# EAGLE library part DIGILENT_PMOD_NAV (library m_module)
Digilent Pmod NAV: 9-axis IMU Plus Barometer Description The Digilent Pmod NAV uses the LSM9DS1 <http://www.st.com/web/en/resource/technical/document/datasheet/DM00103319.pdf> 3-axis accelerometer, 3-axis gyroscope, 3-axis magnetometer, plus the LPS25HB <http://www.st.com/web/en/resource/technical/document/datasheet/DM00141379.pdf> digital barometer to provide users with 10-DOF functionality. The Pmod NAV provides a variety of orientation related data, allowing users to easily determine the exact position the module is in and where it is headed. With 16-bit full scale registers for acceleration, rotation, and orientation, and 24 bits of resolution for pressure data, users can easily figure out if their moving robot is falling over, how high in the air their hot air balloon is located, or which direction they are facing. Features: ±2/±4/±8/±16 g linear acceleration full scale ±245/±500/±2000 dps angular rate full scale ±4/±8/±12/±16 gauss magnetic full scale 260-1260 hPa piezoresistive pressure sensor Embedded temperature sensors for compensation 12-pin Pmod connector with SPI interface Follows Digilent Interface Specification Type 2A Library and example code available in resource center Product page: https://store.digilentinc.com/pmod-nav-9-axis-imu-plus-barometer/ Octopart Search <https://octopart.com/search?q=digilent 410-326>
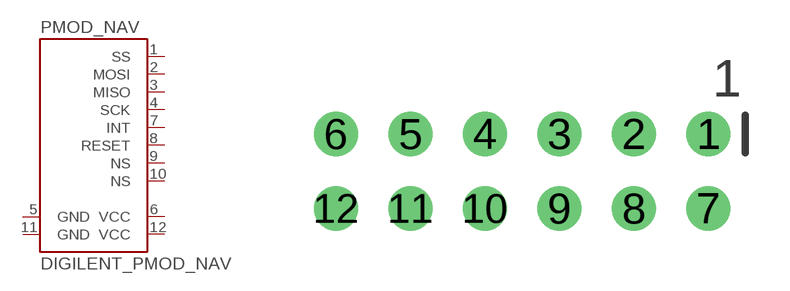
[diagram p9: symbol with the pads of PMOD_2A_ESPI; footprint PMOD_2A_ESPI]

Designator prefix PMOD_NAV

## DIGILENT_PMOD_NAV (MANUF: Digilent; PARTNUM: digilent 410-326; VALUE: Pmod NAV)  [PMOD_2A_ESPI]
1  SS  pas
2  MOSI  pas
3  MISO  pas
4  SCK  pas
5  GND  pas
6  VCC  pas
7  INT  pas
8  RESET  pas
9  NS  pas
10  NS  pas
11  GND  pas
12  VCC  pas

## Footprint PMOD_2A_ESPI (pad centres in mm)
Pmod Interface Type 2A: Expanded SPI, Vertical Through Hole Solder
drill 1: 1 6.35,1.27; 2 3.81,1.27; 3 1.27,1.27; 4 -1.27,1.27; 5 -3.81,1.27; 6 -6.35,1.27; 7 6.35,-1.27; 8 3.81,-1.27; 9 1.27,-1.27; 10 -1.27,-1.27; 11 -3.81,-1.27; 12 -6.35,-1.27